# Altium schematic symbol library STM32H755IIT6.SchLib: 1 symbol
Pins are listed as number, name and electrical type; pins without a type are passive.

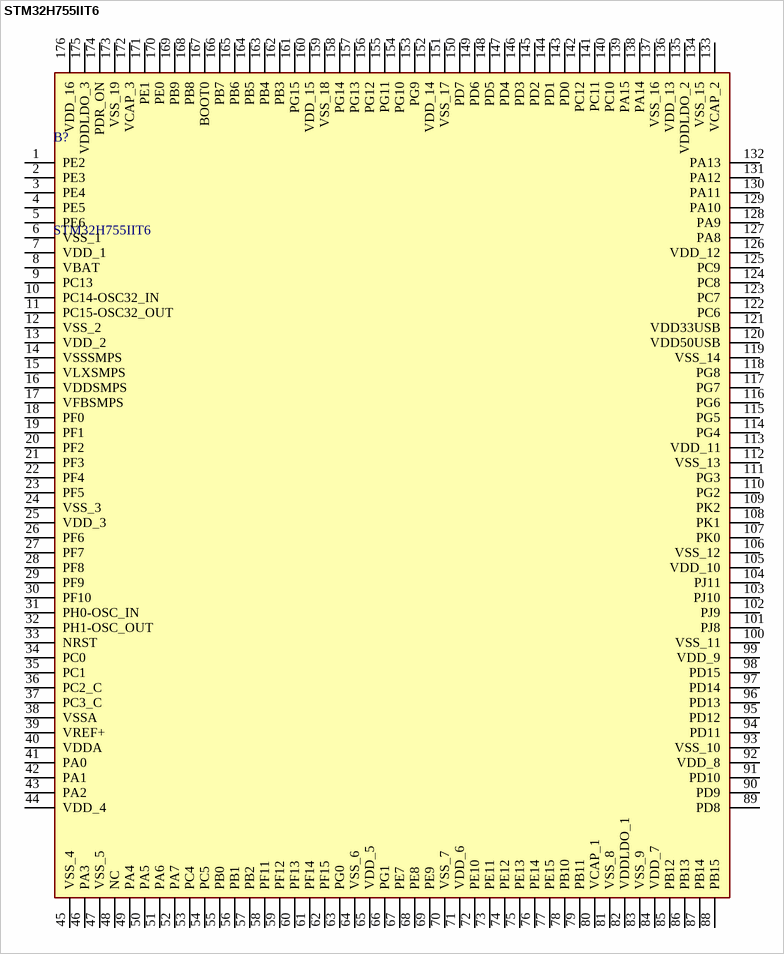
[diagram p0: symbol STM32H755IIT6]

## STM32H755IIT6
designator B?
ARM Microcontrollers - MCU; Manufacturer_Name: STMicroelectronics; Geometry.Height: 1.6mm; Manufacturer_Part_Number: STM32H755IIT6; Mouser Part Number: 511-STM32H755IIT6; Mouser Price/Stock: https://www.mouser.co.uk/ProductDetail/STMicroelectronics/STM32H755IIT6?qs=vLWxofP3U2y54l1JsNdchA%3D%3D; Arrow Part Number: STM32H755IIT6; Arrow Price/Stock: https://www.arrow.com/en/products/stm32h755iit6/stmicroelectronics?region=nac; Datasheet Link: https://www.st.com/resource/en/datasheet/stm32h755ii.pdf
footprint QFP50P2600X2600X160-176N
pins: 1 PE2, 2 PE3, 3 PE4, 4 PE5, 5 PE6, 6 VSS_1, 7 VDD_1, 8 VBAT, 9 PC13, 10 PC14-OSC32_IN, 11 PC15-OSC32_OUT, 12 VSS_2, 13 VDD_2, 14 VSSSMPS, 15 VLXSMPS, 16 VDDSMPS, 17 VFBSMPS, 18 PF0, 19 PF1, 20 PF2, 21 PF3, 22 PF4, 23 PF5, 24 VSS_3, 25 VDD_3, 26 PF6, 27 PF7, 28 PF8, 29 PF9, 30 PF10, 31 PH0-OSC_IN, 32 PH1-OSC_OUT, 33 NRST, 34 PC0, 35 PC1, 36 PC2_C, 37 PC3_C, 38 VSSA, 39 VREF+, 40 VDDA, 41 PA0, 42 PA1, 43 PA2, 44 VDD_4, 45 VSS_4, 46 PA3, 47 VSS_5, 48 NC, 49 PA4, 50 PA5, 51 PA6, 52 PA7, 53 PC4, 54 PC5, 55 PB0, 56 PB1, 57 PB2, 58 PF11, 59 PF12, 60 PF13, 61 PF14, 62 PF15, 63 PG0, 64 VSS_6, 65 VDD_5, 66 PG1, 67 PE7, 68 PE8, 69 PE9, 70 VSS_7, 71 VDD_6, 72 PE10, 73 PE11, 74 PE12, 75 PE13, 76 PE14, 77 PE15, 78 PB10, 79 PB11, 80 VCAP_1, 81 VSS_8, 82 VDDLDO_1, 83 VSS_9, 84 VDD_7, 85 PB12, 86 PB13, 87 PB14, 88 PB15, 89 PD8, 90 PD9, 91 PD10, 92 VDD_8, 93 VSS_10, 94 PD11, 95 PD12, 96 PD13, 97 PD14, 98 PD15, 99 VDD_9, 100 VSS_11, 101 PJ8, 102 PJ9, 103 PJ10, 104 PJ11, 105 VDD_10, 106 VSS_12, 107 PK0, 108 PK1, 109 PK2, 110 PG2, 111 PG3, 112 VSS_13, 113 VDD_11, 114 PG4, 115 PG5, 116 PG6, 117 PG7, 118 PG8, 119 VSS_14, 120 VDD50USB, 121 VDD33USB, 122 PC6, 123 PC7, 124 PC8, 125 PC9, 126 VDD_12, 127 PA8, 128 PA9, 129 PA10, 130 PA11, 131 PA12, 132 PA13, 133 VCAP_2, 134 VSS_15, 135 VDDLDO_2, 136 VDD_13, 137 VSS_16, 138 PA14, 139 PA15, 140 PC10, 141 PC11, 142 PC12, 143 PD0, 144 PD1, 145 PD2, 146 PD3, 147 PD4, 148 PD5, 149 PD6, 150 PD7, 151 VSS_17, 152 VDD_14, 153 PG9, 154 PG10, 155 PG11, 156 PG12, 157 PG13, 158 PG14, 159 VSS_18, 160 VDD_15, 161 PG15, 162 PB3, 163 PB4, 164 PB5, 165 PB6, 166 PB7, 167 BOOT0, 168 PB8, 169 PB9, 170 PE0, 171 PE1, 172 VCAP_3, 173 VSS_19, 174 PDR_ON, 175 VDDLDO_3, 176 VDD_16